# Altium schematic symbol library QUTMS_LEDLibrary.SchLib: 9 symbols
Pins are listed as number, name and electrical type; pins without a type are passive.

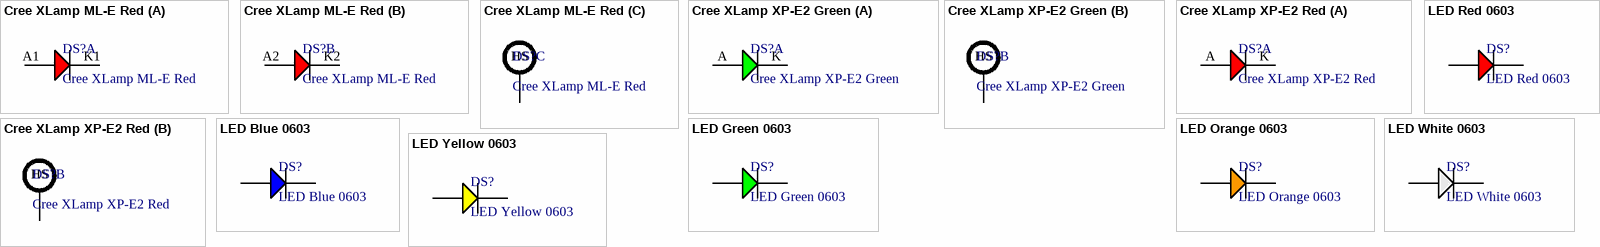
[diagram p0: symbols Cree XLamp ML-E Red to LED Yellow 0603]

## Cree XLamp ML-E Red
designator DS?
MLERED-A1-0000-000V01 -  High Brightness LED, XLamp ML-E Series, Red, 630 nm, 125 °, 18.1 lm, 350 mA
footprint Cree XLamp ML-E
part A pins: A1 A, K1 K
part B pins: A2 A, K2 K
part C pins: HS

## Cree XLamp XP-E2 Green
designator DS?
XPEBGR-L1-0000-00A01 -  High Brightness LED, XLamp XP-E2 Series, Green, 535 nm, 135 °, 87.4 lm, 1 A; ComponentLink1Description: Element14; ComponentLink1URL: https://au.element14.com/cree/xpebrd-l1-0000-00601/led-smd-xlamp-xpe-e-red-62lm/dp/2335107
footprint Cree XLamp XP-E2
part A pins: A, K
part B pins: HS

## Cree XLamp XP-E2 Red
designator DS?
XPEBRD-L1-0000-00601 -  High Brightness LED, XLamp XP-E2 Series, Red, 630 nm, 130 °, 62 lm, 1 A; ComponentLink1Description: Element14; ComponentLink1URL: https://au.element14.com/cree/xpebrd-l1-0000-00601/led-smd-xlamp-xpe-e-red-62lm/dp/2335107
footprint Cree XLamp XP-E2
part A pins: A, K
part B pins: HS

## LED Blue 0603
designator DS?
footprint LED BLUE 0603
pins: 1 A, 2 C

## LED Green 0603
designator DS?
footprint LED GREEN 0603
pins: 1 A, 2 C

## LED Orange 0603
designator DS?
footprint LED ORANGE 0603
pins: 1 A, 2 C

## LED Red 0603
designator DS?
footprint LED RED 0603
pins: 1 A, 2 C

## LED White 0603
designator DS?
footprint LED WHITE 0603
pins: 1 A, 2 C

## LED Yellow 0603
designator DS?
footprint LED YELLOW 0603
pins: 1 A, 2 C